# Altium schematic symbol library sigma-delta-adc-uart.SchLib: 10 symbols
Pins are listed as number, name and electrical type; pins without a type are passive.

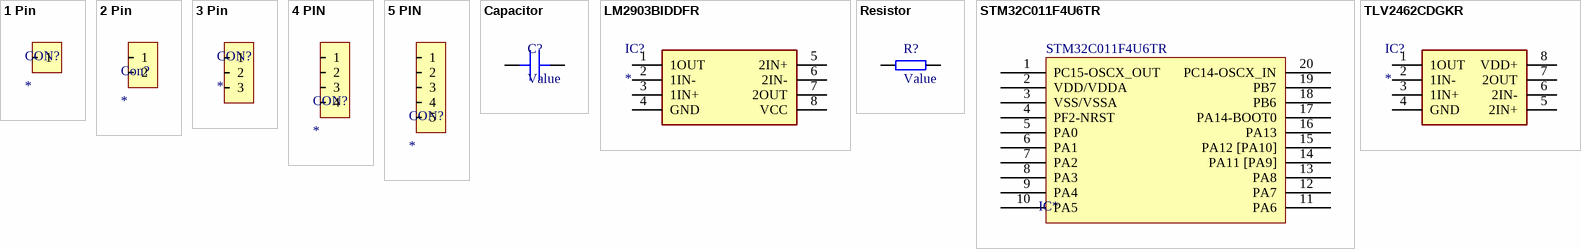
[diagram p0: symbols 1 Pin to TLV2462CDGKR]

## 1 Pin
designator CON?
footprint GOLDPIN 2.54mm 1P
pins: 1

## 2 Pin
designator Con?
footprint Goldpin 2.54mm 2P
pins: 1, 2

## 3 Pin
designator CON?
footprint Goldpin 2.54MM 3P
pins: 1, 2, 3

## 4 PIN
designator CON?
footprint Goldpin 2.54MM 4P
footprint SM04B-SRSS-TB
footprint BM04B-SRSS-TB
footprint S/BM04B-SRSS-TB (JST SH 1.00mm 4Pin Side/Top)
pins: 1, 2, 3, 4

## 5 PIN
designator CON?
footprint Goldpin 2.54mm 5P
pins: 1, 2, 3, 4, 5

## Capacitor
designator C?, comment Value
MLCC Capacitor
footprint C 0402 (MLCC Capacitor 0402)
footprint C 0603
footprint C 0805
footprint C 1206
pins: 1, 2

## LM2903BIDDFR
designator IC?
Integrated Circuit; Manufacturer_Name: Texas Instruments; Manufacturer_Part_Number: LM2903BIDDFR; Datasheet Link: https://www.ti.com/lit/ds/symlink/lm2903b.pdf; Height: 1.1mm; Mouser Part Number: 595-LM2903BIDDFR; Mouser Price/Stock: https://www.mouser.co.uk/ProductDetail/Texas-Instruments/LM2903BIDDFR?qs=zW32dvEIR3tE88esuzsygA%3D%3D; Arrow Part Number: LM2903BIDDFR; Arrow Price/Stock: https://www.arrow.com/en/products/lm2903biddfr/texas-instruments
footprint SOT65P280X110-8N
pins: 1 1OUT, 2 1IN-, 3 1IN+, 4 GND, 5 2IN+, 6 2IN-, 7 2OUT, 8 VCC

## Resistor
designator R?, comment Value
General pourpouse resistor
footprint R 0402 (0402 resistor Chip)
footprint R 0603
footprint R 0805
footprint R 1206
footprint R 2512
pins: 1, 2

## STM32C011F4U6TR
designator IC*  (value not drawn)
ComponentLink1Description: Datasheet; ComponentLink1URL: https://www.alldatasheet.com/datasheet-pdf/download/1583958/STMICROELECTRONICS/STM32C011F4U6TR.html
footprint UFQFPN20 - byMe
pins: 1 PC15-OSCX_OUT, 2 VDD/VDDA, 3 VSS/VSSA, 4 PF2-NRST, 5 PA0, 6 PA1, 7 PA2, 8 PA3, 9 PA4, 10 PA5, 11 PA6, 12 PA7, 13 PA8, 14 PA11 [PA9], 15 PA12 [PA10], 16 PA13, 17 PA14-BOOT0, 18 PB6, 19 PB7, 20 PC14-OSCX_IN

## TLV2462CDGKR
designator IC?
Integrated Circuit; Manufacturer_Name: Texas Instruments; Manufacturer_Part_Number: TLV2462CDGKR; Datasheet Link: http://www.ti.com/lit/gpn/TLV2462; Height: 1.1mm; Mouser Part Number: 595-TLV2462CDGKR; Mouser Price/Stock: https://www.mouser.co.uk/ProductDetail/Texas-Instruments/TLV2462CDGKR?qs=Fg5TsMy7H4uE1B0PPHeSQQ%3D%3D; Arrow Part Number: TLV2462CDGKR; Arrow Price/Stock: https://www.arrow.com/en/products/tlv2462cdgkr/texas-instruments?region=nac
footprint SOP65P490X110-8N
pins: 1 1OUT, 2 1IN-, 3 1IN+, 4 GND, 5 2IN+, 6 2IN-, 7 2OUT, 8 VDD+